# EAGLE library part HEADER_6P (library mw-voice-marker)
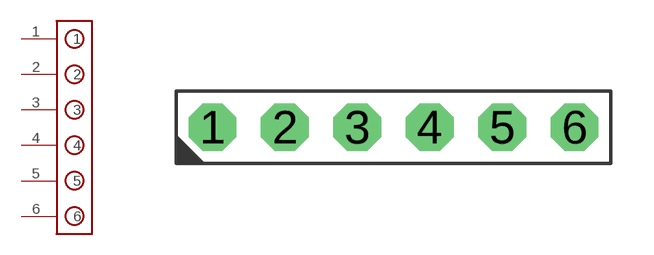
[diagram p1: symbol with the pads of HEADER_6P; footprint HEADER_6P]

Designator prefix -

## HEADER_6P  [HEADER_6P]
1  1
2  2
3  3
4  4
5  5
6  6

## Footprint HEADER_6P (pad centres in mm)
drill 1 pad 1.676 octagon: 1 -6.35,0; 2 -3.81,0; 3 -1.27,0; 4 1.27,0; 5 3.81,0; 6 6.35,0